# EAGLE library part MSP430JTAG (library 00_cody)
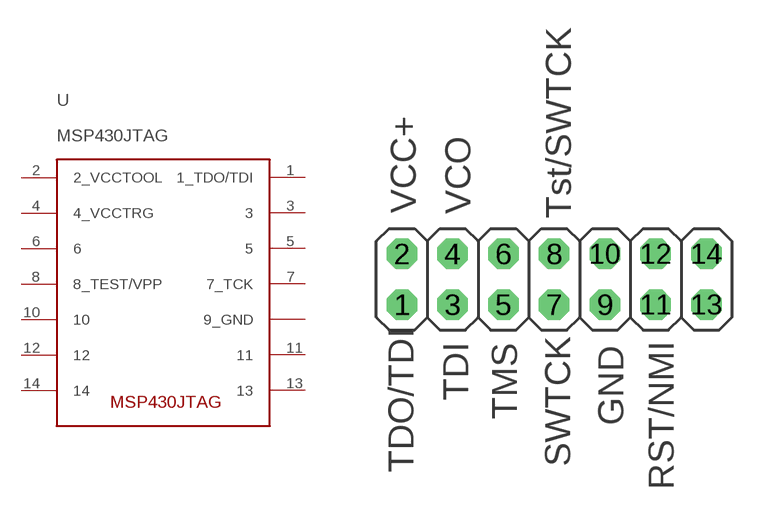
[diagram p146: symbol with the pads of 2X07; footprint 2X07]

Designator prefix -

## MSP430JTAG  [2X07]
1  1_TDO/TDI
2  2_VCCTOOL
3  3
4  4_VCCTRG
5  5
6  6
7  7_TCK
8  8_TEST/VPP
9  9_GND
10  10
11  11
12  12
13  13
14  14

## Footprint 2X07 (pad centres in mm)
PIN HEADER
drill 1.016 octagon: 1 -7.62,-1.27; 2 -7.62,1.27; 3 -5.08,-1.27; 4 -5.08,1.27; 5 -2.54,-1.27; 6 -2.54,1.27; 7 0,-1.27; 8 0,1.27; 9 2.54,-1.27; 10 2.54,1.27; 11 5.08,-1.27; 12 5.08,1.27; 13 7.62,-1.27; 14 7.62,1.27